# Altium footprint library PCB_Switch.PcbLib: 6 footprints
Each footprint in its own frame and in the unit in brackets; x right, y up, seen from the top. Pads: shape width x height; smd on the part's side, far side on the other; paste and mask are expansions set on the pad; w line width, h text height; cw(c..) or ccw(c..) is an arc to the next point about the centre after c.
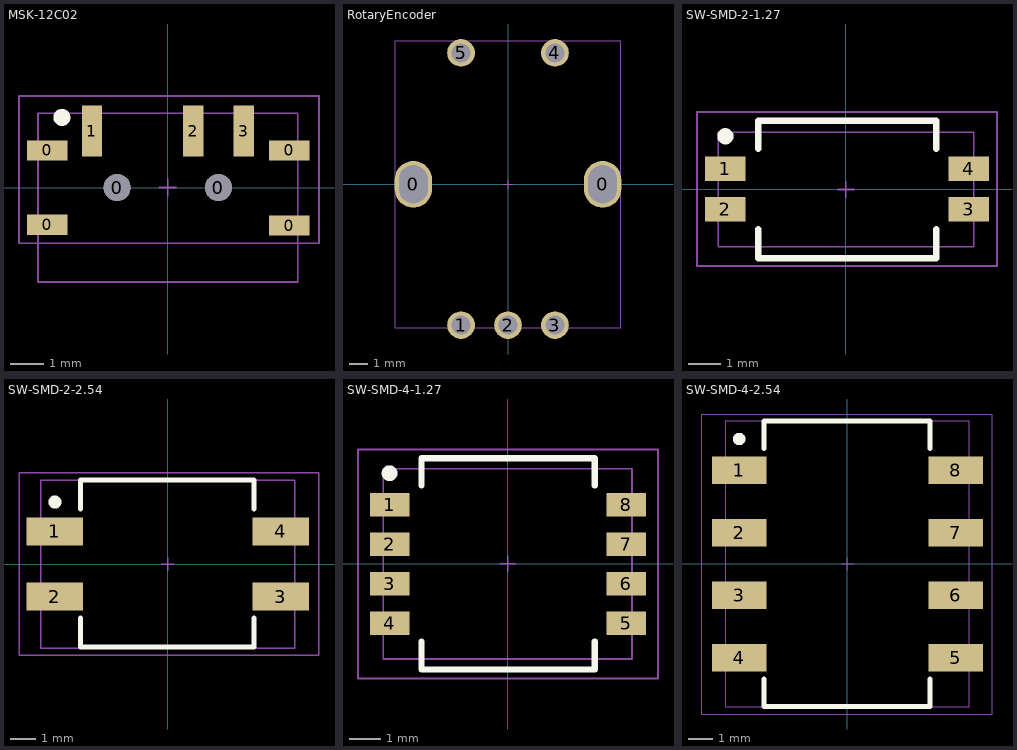
[diagram p0: the footprints below, top view; thin cyan lines are the x and y axes]

## MSK-12C02 [mm]
pads (9):
  rect 1.2x0.6 smd: 0(-3.575,-1.1) 0(-3.575,1.1) 0(3.6,-1.125) 0(3.6,1.1)
  round 0.8 hole 0.8 unplated: 0(-1.5,0) 0(1.5,0)
  rect 0.6x1.5 smd: 1(-2.25,1.675) 2(0.75,1.675) 3(2.25,1.675)
Top Overlay:
  circle w0.254: c-3.14,2.079 r0.127
Top Assembly (Mech13):
  lines w0.051: -0.254,0 0.254,0 ; 0,-0.254 0,0.254 ; -3.85,-2.8 3.85,-2.8 3.85,2.2 -3.85,2.2 -3.85,-2.8
Top Component:
  lines w0.051: -4.41,-1.651 -4.41,2.714 4.48,2.714 4.48,-1.651 -4.41,-1.651
  text ".Designator" at -1.041,-0.61 h2.54
3D body "MSK-12C02.STEP": height 1.18, standoff -0.48, extent -3.85,-2.8 3.85,2.2

## RotaryEncoder [mil]
pads (7):
  oval 78x98 hole 60 slot 80 at 90 deg: 0(-198.43,0) 0(198.43,0)
  round 58 hole 40: 1(-98.43,-295.28) 2(0,-295.28) 3(98.43,-295.28) 4(98.43,275.59) 5(-98.43,275.59)
Top Assembly (Mech13):
  lines w2: -10,0 10,0 ; 0,-10 0,10 ; -236.22,-301.18 -236.22,301.18 236.22,301.18 236.22,-301.18 -236.22,-301.18
Top Component:
  text ".Designator" at -42.38,-25.84 h100
3D body "knob_enc.STEP": height 1023.62, standoff -147.64, extent -236.22,-301.18 236.22,301.18

## SW-SMD-2-1.27 [mm]
pads (4):
  rect 1.27x0.76 smd: 1(-3.775,0.65) 2(-3.775,-0.62) 3(3.845,-0.62) 4(3.845,0.65)
Top Overlay:
  circle w0.254: c-3.775,1.666 r0.127
  lines w0.2: -2.75,-1.25 -2.75,-2.15 2.825,-2.15 2.825,-1.25 ; -2.75,1.275 -2.75,2.15 2.825,2.15 2.825,1.275
Top Assembly (Mech13):
  lines w0.051: -0.254,0 0.254,0 ; 0,-0.254 0,0.254 ; -4,-1.79 -4,1.79 4,1.79 4,-1.79 -4,-1.79
Top Component:
  lines w0.051: -4.664,-2.398 4.734,-2.398 4.734,2.428 -4.664,2.428 -4.664,-2.398
  text ".Designator" at -1.076,-0.656 h2.54
3D body "DIP SW 2P 1.27.stp": height 2.1, standoff 0, extent -4,-1.79 4,1.79

## SW-SMD-2-2.54 [mm]
pads (4):
  rect 2.2x1.1 smd: 1(-4.4,1.275) 2(-4.4,-1.265) 3(4.4,-1.265) 4(4.4,1.275)
Top Overlay:
  circle w0.254: c-4.4,2.418 r0.127
  lines w0.2: -3.4,-2.1 -3.4,-3.225 3.35,-3.225 3.35,-2.1 ; -3.4,2.15 -3.4,3.275 3.35,3.275 3.35,2.15
Top Assembly (Mech13):
  lines w0.051: -0.254,0 0.254,0 ; 0,-0.254 0,0.254 ; -4.95,-3.275 -4.95,3.275 4.95,3.275 4.95,-3.275 -4.95,-3.275
Top Component:
  lines w0.051: -5.797,-3.551 -5.797,3.561 5.887,3.561 5.887,-3.551 -5.797,-3.551
  text ".Designator" at -1.076,-0.656 h2.54
3D body "User Library-DIP SW 2P.STEP": height 4.15, standoff 0, extent -4.95,-3.275 4.95,3.275

## SW-SMD-4-1.27 [mm]
pads (8):
  rect 1.27x0.76 smd: 1(-3.8,1.9) 2(-3.8,0.63) 3(-3.8,-0.64) 4(-3.8,-1.91) 5(3.82,-1.91) 6(3.82,-0.64) 7(3.82,0.63) 8(3.82,1.9)
Top Overlay:
  circle w0.254: c-3.8,2.916 r0.127
  lines w0.2: -2.775,-2.5 -2.775,-3.4 2.8,-3.4 2.8,-2.5 ; -2.775,2.525 -2.775,3.4 2.8,3.4 2.8,2.525
Top Assembly (Mech13):
  lines w0.051: -0.254,0 0.254,0 ; 0,-0.254 0,0.254 ; -4,-3.06 4,-3.06 4,3.06 -4,3.06 -4,-3.06
Top Component:
  lines w0.051: -4.816,-3.688 4.836,-3.688 4.836,3.678 -4.816,3.678 -4.816,-3.688
  text ".Designator" at -1.076,-0.656 h2.54
3D body "43610.stp": height 2.1, standoff 0, extent -4,-3.06 4,3.06

## SW-SMD-4-2.54 [mm]
pads (8):
  rect 2.2x1.1 smd: 1(-4.4,3.8) 2(-4.4,1.26) 3(-4.4,-1.28) 4(-4.4,-3.82) 5(4.4,-3.82) 6(4.4,-1.28) 7(4.4,1.26) 8(4.4,3.8)
Top Overlay:
  circle w0.254: c-4.4,5.07 r0.127
  lines w0.2: -3.4,-4.675 -3.4,-5.8 3.35,-5.8 3.35,-4.675 ; -3.4,4.675 -3.4,5.8 3.35,5.8 3.35,4.675
Top Assembly (Mech13):
  lines w0.051: -0.254,0 0.254,0 ; 0,-0.254 0,0.254 ; -4.95,-5.815 4.95,-5.815 4.95,5.815 -4.95,5.815 -4.95,-5.815
Top Component:
  lines w0.051: -5.924,-6.106 5.887,-6.106 5.887,6.086 -5.924,6.086 -5.924,-6.106
  text ".Designator" at -1.076,-0.656 h2.54
3D body "DIP SW 4P.STEP": height 4.15, standoff 0, extent -4.95,-5.815 4.95,5.815